# Altium footprint library PCB - LEADLESS - BGA - TI DSBGA-6 YFF.PcbLib: 1 footprints
Each footprint in its own frame and in the unit in brackets; x right, y up, seen from the top. Pads: shape width x height; smd on the part's side, far side on the other; paste and mask are expansions set on the pad; w line width, h text height; cw(c..) or ccw(c..) is an arc to the next point about the centre after c.
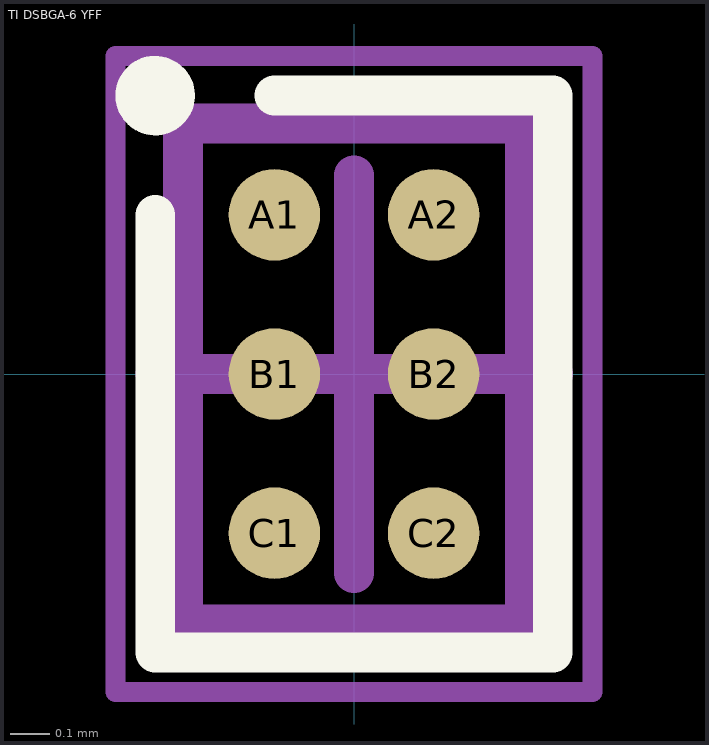
[diagram p0: the footprint, top view; thin cyan lines are the x and y axes]

## TI DSBGA-6 YFF [mm] "BGA, 6-Leads, Body 0.86x1.25mmx0.65mm, Pitch 0.40mm"
height 0.65
pads (6):
  round 0.23 smd mask+0.04: A1(-0.2,0.4) A2(0.2,0.4) B1(-0.2,0) B2(0.2,0) C1(-0.2,-0.4) C2(0.2,-0.4)
Top Overlay:
  circle w0.1: c-0.5,0.7 r0.05
  lines w0.1: -0.5,0.4 -0.5,-0.7 0.5,-0.7 0.5,0.7 -0.2,0.7
Mechanical 13:
  lines w0.1: -0.43,-0.63 0.43,-0.63 0.43,0.63 -0.43,0.63 -0.43,-0.63
Mechanical 15:
  lines w0.05: -0.6,-0.8 0.6,-0.8 0.6,0.8 -0.6,0.8 -0.6,-0.8
  lines w0.1: -0.5,0 0.5,0 ; 0,-0.5 0,0.5
3D body "TI DSBGA-6 YFF.step": height 0.65, standoff 0, extent -0.43,-0.63 0.43,0.63